# Altium schematic symbol library SRP7050WA-220M.SchLib: 1 symbol
Pins are listed as number, name and electrical type; pins without a type are passive.

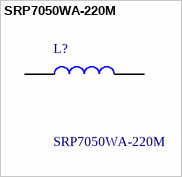
[diagram p0: symbol SRP7050WA-220M]

## SRP7050WA-220M
designator L?
Ind,7.9x7.3x5.2mm,22uH+/-20%,5A,shd; Manufacturer_Name: Bourns; Geometry.Height: 5.4mm; Mouser Part Number: 652-SRP7050WA-220M; Mouser Price/Stock: https://www.mouser.co.uk/ProductDetail/Bourns/SRP7050WA-220M?qs=9vOqFld9vZXeqPUX6WhGiQ%3D%3D; Manufacturer_Part_Number: SRP7050WA-220M; Datasheet Link: https://g.componentsearchengine.com/Datasheets/0/17601808.pdf
footprint INDPM7973X540N
pins: 1, 2